# Altium schematic symbol library BLM21AG121SN1D.SchLib: 2 symbols
Pins are listed as number, name and electrical type; pins without a type are passive.

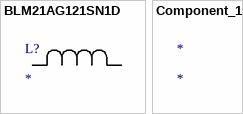
[diagram p0: symbols BLM21AG121SN1D to Component_1]

## BLM21AG121SN1D
designator L?
No Description Available; Mfr_Name: Murata
footprint IND_BLM21_MUR
pins: 1, 2

## Component_1
designator *